# Altium integrated library Capacitor - Aluminium TH.IntLib: 4591 symbols (part 33 of 68)
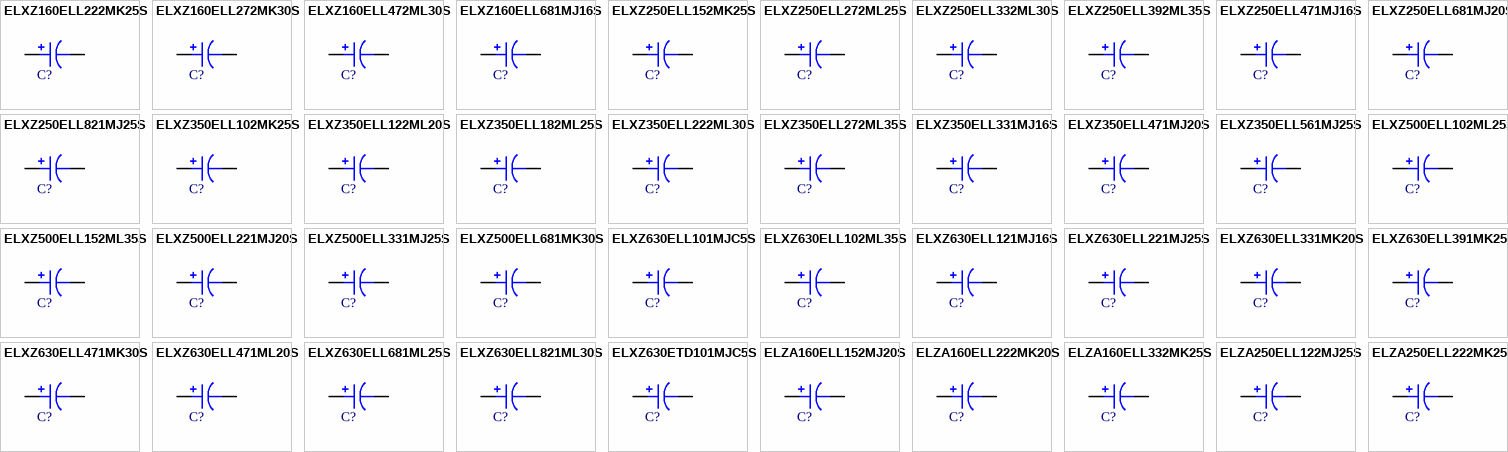
[diagram p146: symbols ELXZ160ELL222MK25S to ELZA250ELL222MK25S]

## ELXZ630ELL102ML35S
designator C?, comment 1000uF  (value not drawn)
CAP ALUM 1000UF 20% 63V RADIAL; Part Number: ELXZ630ELL102ML35S; Manufacturer: United Chemi-Con; TemperatureRange: -55C ~ 105C; Type: Polar; Ripple Current: 1.662A @ 120Hz; Impedance: 36 mOhm; Value: 1000uF; PartId: 27355; Supplier 1: Digi-Key; Supplier Part Number 1: 565-2031-ND; ComponentLink1Description: Datasheet; ComponentLink1URL: http://www.chemi-con.co.jp/cgi-bin/CAT_DB/SEARCH/cat_db_al.cgi?e=e&j=p&pdfname=lxz; ComponentLink2Description: Digi-Key Listing; ComponentLink2URL: https://www.digikey.com/product-detail/en/united-chemi-con/ELXZ630ELL102ML35S/565-2031-ND/756547; Tolerance: 20%; Voltage: 63V; Price: 1.77; Device Package: Radial, Can, 16mm
footprint CAP AL TH D16 L7.5 H37
pins: 1, 2

## ELXZ630ELL121MJ16S
designator C?, comment 120uF  (value not drawn)
CAP ALUM 120UF 20% 63V RADIAL; Part Number: ELXZ630ELL121MJ16S; Manufacturer: United Chemi-Con; TemperatureRange: -55C ~ 105C; Type: Polar; Ripple Current: 240mA @ 120Hz; Impedance: 190 mOhm; Value: 120uF; PartId: 25238; Supplier 1: Digi-Key; Supplier Part Number 1: 565-2032-ND; ComponentLink1Description: Datasheet; ComponentLink1URL: http://www.chemi-con.co.jp/cgi-bin/CAT_DB/SEARCH/cat_db_al.cgi?e=e&j=p&pdfname=lxz; ComponentLink2Description: Digi-Key Listing; ComponentLink2URL: https://www.digikey.com/product-detail/en/united-chemi-con/ELXZ630ELL121MJ16S/565-2032-ND/756548; Tolerance: 20%; Voltage: 63V; Price: 0.56; Device Package: Radial, Can, 10mm
footprint CAP AL TH D10 L5 H17.5
pins: 1, 2

## ELXZ630ELL221MJ25S
designator C?, comment 220uF  (value not drawn)
CAP ALUM 220UF 20% 63V RADIAL; Part Number: ELXZ630ELL221MJ25S; Manufacturer: United Chemi-Con; TemperatureRange: -55C ~ 105C; Type: Polar; Ripple Current: 525mA @ 120Hz; Impedance: 130 mOhm; Value: 220uF; PartId: 26055; Supplier 1: Digi-Key; Supplier Part Number 1: 565-2040-ND; ComponentLink1Description: Datasheet; ComponentLink1URL: http://www.chemi-con.co.jp/cgi-bin/CAT_DB/SEARCH/cat_db_al.cgi?e=e&j=p&pdfname=lxz; ComponentLink2Description: Digi-Key Listing; ComponentLink2URL: https://www.digikey.com/product-detail/en/united-chemi-con/ELXZ630ELL221MJ25S/565-2040-ND/756556; Tolerance: 20%; Voltage: 63V; Price: 0.65; Device Package: Radial, Can, 10mm
footprint CAP AL TH D10 L5 H30
pins: 1, 2

## ELXZ630ELL331MK20S
designator C?, comment 330uF  (value not drawn)
CAP ALUM 330UF 20% 63V RADIAL; Part Number: ELXZ630ELL331MK20S; Manufacturer: United Chemi-Con; TemperatureRange: -55C ~ 105C; Type: Polar; Ripple Current: 645mA @ 120Hz; Impedance: 85 mOhm; Value: 330uF; PartId: 22970; Supplier 1: Digi-Key; Supplier Part Number 1: 565-2043-ND; ComponentLink1Description: Datasheet; ComponentLink1URL: http://www.chemi-con.co.jp/cgi-bin/CAT_DB/SEARCH/cat_db_al.cgi?e=e&j=p&pdfname=lxz; ComponentLink2Description: Digi-Key Listing; ComponentLink2URL: https://www.digikey.com/product-detail/en/united-chemi-con/ELXZ630ELL331MK20S/565-2043-ND/756559; Tolerance: 20%; Voltage: 63V; Price: 0; Device Package: Radial, Can, 12.5mm
footprint CAP AL TH D12.5 L5 H21.5
pins: 1, 2

## ELXZ630ELL391MK25S
designator C?, comment 390uF  (value not drawn)
CAP ALUM 390UF 20% 63V RADIAL; Part Number: ELXZ630ELL391MK25S; Manufacturer: United Chemi-Con; TemperatureRange: -55C ~ 105C; Type: Polar; Ripple Current: 860mA @ 120Hz; Impedance: 70 mOhm; Value: 390uF; PartId: 23665; Supplier 1: Digi-Key; Supplier Part Number 1: 565-2044-ND; ComponentLink1Description: Datasheet; ComponentLink1URL: http://www.chemi-con.co.jp/cgi-bin/CAT_DB/SEARCH/cat_db_al.cgi?e=e&j=p&pdfname=lxz; ComponentLink2Description: Digi-Key Listing; ComponentLink2URL: https://www.digikey.com/product-detail/en/united-chemi-con/ELXZ630ELL391MK25S/565-2044-ND/756560; Tolerance: 20%; Voltage: 63V; Price: 0.95; Device Package: Radial, Can, 12.5mm
footprint CAP AL TH D12.5 L5 H26.5
pins: 1, 2

## ELXZ630ELL471MK30S
designator C?, comment 470uF  (value not drawn)
CAP ALUM 470UF 20% 63V RADIAL; Part Number: ELXZ630ELL471MK30S; Manufacturer: United Chemi-Con; TemperatureRange: -55C ~ 105C; Type: Polar; Ripple Current: 1.045A @ 120Hz; Impedance: 55 mOhm; Value: 470uF; PartId: 24260; Supplier 1: Digi-Key; Supplier Part Number 1: 565-2046-ND; ComponentLink1Description: Datasheet; ComponentLink1URL: http://www.chemi-con.co.jp/cgi-bin/CAT_DB/SEARCH/cat_db_al.cgi?e=e&j=p&pdfname=lxz; ComponentLink2Description: Digi-Key Listing; ComponentLink2URL: https://www.digikey.com/product-detail/en/united-chemi-con/ELXZ630ELL471MK30S/565-2046-ND/756562; Tolerance: 20%; Voltage: 63V; Price: 1.04; Device Package: Radial, Can, 12.5mm
footprint CAP AL TH D12.5 L5 H35.5
pins: 1, 2

## ELXZ630ELL471ML20S
designator C?, comment 470uF  (value not drawn)
CAP ALUM 470UF 20% 63V RADIAL; Part Number: ELXZ630ELL471ML20S; Manufacturer: United Chemi-Con; TemperatureRange: -55C ~ 105C; Type: Polar; Ripple Current: 885mA @ 120Hz; Impedance: 59 mOhm; Value: 470uF; PartId: 26299; Supplier 1: Digi-Key; Supplier Part Number 1: 565-2047-ND; ComponentLink1Description: Datasheet; ComponentLink1URL: http://www.chemi-con.co.jp/cgi-bin/CAT_DB/SEARCH/cat_db_al.cgi?e=e&j=p&pdfname=lxz; ComponentLink2Description: Digi-Key Listing; ComponentLink2URL: https://www.digikey.com/product-detail/en/united-chemi-con/ELXZ630ELL471ML20S/565-2047-ND/756563; Tolerance: 20%; Voltage: 63V; Price: 1.12; Device Package: Radial, Can, 16mm
footprint CAP AL TH D16 L7.5 H20
pins: 1, 2

## ELXZ630ELL681ML25S
designator C?, comment 680uF  (value not drawn)
CAP ALUM 680UF 20% 63V RADIAL; Part Number: ELXZ630ELL681ML25S; Manufacturer: United Chemi-Con; TemperatureRange: -55C ~ 105C; Type: Polar; Ripple Current: 1.296A @ 120Hz; Impedance: 50 mOhm; Value: 680uF; PartId: 26611; Supplier 1: Digi-Key; Supplier Part Number 1: 565-2049-ND; ComponentLink1Description: Datasheet; ComponentLink1URL: http://www.chemi-con.co.jp/cgi-bin/CAT_DB/SEARCH/cat_db_al.cgi?e=e&j=p&pdfname=lxz; ComponentLink2Description: Digi-Key Listing; ComponentLink2URL: https://www.digikey.com/product-detail/en/united-chemi-con/ELXZ630ELL681ML25S/565-2049-ND/756565; Tolerance: 20%; Voltage: 63V; Price: 1.38; Device Package: Radial, Can, 16mm
footprint CAP AL TH D16 L7.5 H26.5
pins: 1, 2

## ELXZ630ELL821ML30S
designator C?, comment 820uF  (value not drawn)
CAP ALUM 820UF 20% 63V RADIAL; Part Number: ELXZ630ELL821ML30S; Manufacturer: United Chemi-Con; TemperatureRange: -55C ~ 105C; Type: Polar; Ripple Current: 1.602A @ 120Hz; Impedance: 43 mOhm; Value: 820uF; PartId: 27010; Supplier 1: Digi-Key; Supplier Part Number 1: 565-2053-ND; ComponentLink1Description: Datasheet; ComponentLink1URL: http://www.chemi-con.co.jp/cgi-bin/CAT_DB/SEARCH/cat_db_al.cgi?e=e&j=p&pdfname=lxz; ComponentLink2Description: Digi-Key Listing; ComponentLink2URL: https://www.digikey.com/product-detail/en/united-chemi-con/ELXZ630ELL821ML30S/565-2053-ND/756569; Tolerance: 20%; Voltage: 63V; Price: 1.4; Device Package: Radial, Can, 16mm
footprint CAP AL TH D16 L7.5 H33.5
pins: 1, 2

## ELXZ630ETD101MJC5S
designator C?, comment 100uF  (value not drawn)
CAP ALUM 100UF 20% 63V RADIAL; Part Number: ELXZ630ETD101MJC5S; Manufacturer: United Chemi-Con; TemperatureRange: -55C ~ 105C; Type: Polar; Ripple Current: 216mA @ 120Hz; Impedance: 255 mOhm; Value: 100uF; PartId: 24576; Supplier 1: Digi-Key; Supplier Part Number 1: 565-3747-2-ND; ComponentLink1Description: Datasheet; ComponentLink1URL: http://www.chemi-con.co.jp/cgi-bin/CAT_DB/SEARCH/cat_db_al.cgi?e=e&j=p&pdfname=lxz; ComponentLink2Description: Digi-Key Listing; ComponentLink2URL: https://www.digikey.com/product-detail/en/united-chemi-con/ELXZ630ETD101MJC5S/565-3747-2-ND/4002192; Tolerance: 20%; Voltage: 63V; Price: 0.1602; Device Package: Radial, Can, 10mm
footprint CAP AL TH D10 L5 H14.5
pins: 1, 2

## ELZA160ELL152MJ20S
designator C?, comment 1500uF  (value not drawn)
CAP ALUM 1500UF 20% 16V RADIAL; Part Number: ELZA160ELL152MJ20S; Manufacturer: United Chemi-Con; TemperatureRange: -55C ~ 105C; Type: Polar; Ripple Current: 930mA @ 120Hz; Impedance: 35 mOhm; Value: 1500uF; PartId: 25707; Supplier 1: Digi-Key; Supplier Part Number 1: 565-3609-ND; ComponentLink1Description: Datasheet; ComponentLink1URL: http://www.chemi-con.co.jp/cgi-bin/CAT_DB/SEARCH/cat_db_al.cgi?e=e&j=p&pdfname=lza; ComponentLink2Description: Digi-Key Listing; ComponentLink2URL: https://www.digikey.com/product-detail/en/united-chemi-con/ELZA160ELL152MJ20S/565-3609-ND/3529409; Tolerance: 20%; Voltage: 16V; Price: 1.01; Device Package: Radial, Can, 10mm
footprint CAP AL TH D10 L5 H22
pins: 1, 2

## ELZA160ELL222MK20S
designator C?, comment 2200uF  (value not drawn)
CAP ALUM 2200UF 20% 16V RADIAL; Part Number: ELZA160ELL222MK20S; Manufacturer: United Chemi-Con; TemperatureRange: -55C ~ 105C; Type: Polar; Ripple Current: 1.418A @ 120Hz; Impedance: 29 mOhm; Value: 2200uF; PartId: 23072; Supplier 1: Digi-Key; Supplier Part Number 1: 565-3368-ND; ComponentLink1Description: Datasheet; ComponentLink1URL: http://www.chemi-con.co.jp/cgi-bin/CAT_DB/SEARCH/cat_db_al.cgi?e=e&j=p&pdfname=lza; ComponentLink2Description: Digi-Key Listing; ComponentLink2URL: https://www.digikey.com/product-detail/en/united-chemi-con/ELZA160ELL222MK20S/565-3368-ND/3529537; Tolerance: 20%; Voltage: 16V; Price: 0; Device Package: Radial, Can, 12.5mm
footprint CAP AL TH D12.5 L5 H21.5
pins: 1, 2

## ELZA160ELL332MK25S
designator C?, comment 3300uF  (value not drawn)
CAP ALUM 3300UF 20% 16V RADIAL; Part Number: ELZA160ELL332MK25S; Manufacturer: United Chemi-Con; TemperatureRange: -55C ~ 105C; Type: Polar; Ripple Current: 1.763A @ 120Hz; Impedance: 22 mOhm; Value: 3300uF; PartId: 23742; Supplier 1: Digi-Key; Supplier Part Number 1: 565-3610-ND; ComponentLink1Description: Datasheet; ComponentLink1URL: http://www.chemi-con.co.jp/cgi-bin/CAT_DB/SEARCH/cat_db_al.cgi?e=e&j=p&pdfname=lza; ComponentLink2Description: Digi-Key Listing; ComponentLink2URL: https://www.digikey.com/product-detail/en/united-chemi-con/ELZA160ELL332MK25S/565-3610-ND/3529411; Tolerance: 20%; Voltage: 16V; Price: 1.6; Device Package: Radial, Can, 12.5mm
footprint CAP AL TH D12.5 L5 H26.5
pins: 1, 2

## ELZA250ELL122MJ25S
designator C?, comment 1200uF  (value not drawn)
CAP ALUM 1200UF 20% 25V RADIAL; Part Number: ELZA250ELL122MJ25S; Manufacturer: United Chemi-Con; TemperatureRange: -55C ~ 105C; Type: Polar; Ripple Current: 1.044A @ 120Hz; Impedance: 33 mOhm; Value: 1200uF; PartId: 26203; Supplier 1: Digi-Key; Supplier Part Number 1: 565-3369-ND; ComponentLink1Description: Datasheet; ComponentLink1URL: http://www.chemi-con.co.jp/cgi-bin/CAT_DB/SEARCH/cat_db_al.cgi?e=e&j=p&pdfname=lza; ComponentLink2Description: Digi-Key Listing; ComponentLink2URL: https://www.digikey.com/product-detail/en/united-chemi-con/ELZA250ELL122MJ25S/565-3369-ND/3529540; Tolerance: 20%; Voltage: 25V; Price: 1.78; Device Package: Radial, Can, 10mm
footprint CAP AL TH D10 L5 H30
pins: 1, 2

## ELZA250ELL222MK25S
designator C?, comment 2200uF  (value not drawn)
CAP ALUM 2200UF 20% 25V RADIAL; Part Number: ELZA250ELL222MK25S; Manufacturer: United Chemi-Con; TemperatureRange: -55C ~ 105C; Type: Polar; Ripple Current: 1.763A @ 120Hz; Impedance: 22 mOhm; Value: 2200uF; PartId: 23744; Supplier 1: Digi-Key; Supplier Part Number 1: 565-3611-ND; ComponentLink1Description: Datasheet; ComponentLink1URL: http://www.chemi-con.co.jp/cgi-bin/CAT_DB/SEARCH/cat_db_al.cgi?e=e&j=p&pdfname=lza; ComponentLink2Description: Digi-Key Listing; ComponentLink2URL: https://www.digikey.com/product-detail/en/united-chemi-con/ELZA250ELL222MK25S/565-3611-ND/3529412; Tolerance: 20%; Voltage: 25V; Price: 1.62; Device Package: Radial, Can, 12.5mm
footprint CAP AL TH D12.5 L5 H26.5
pins: 1, 2

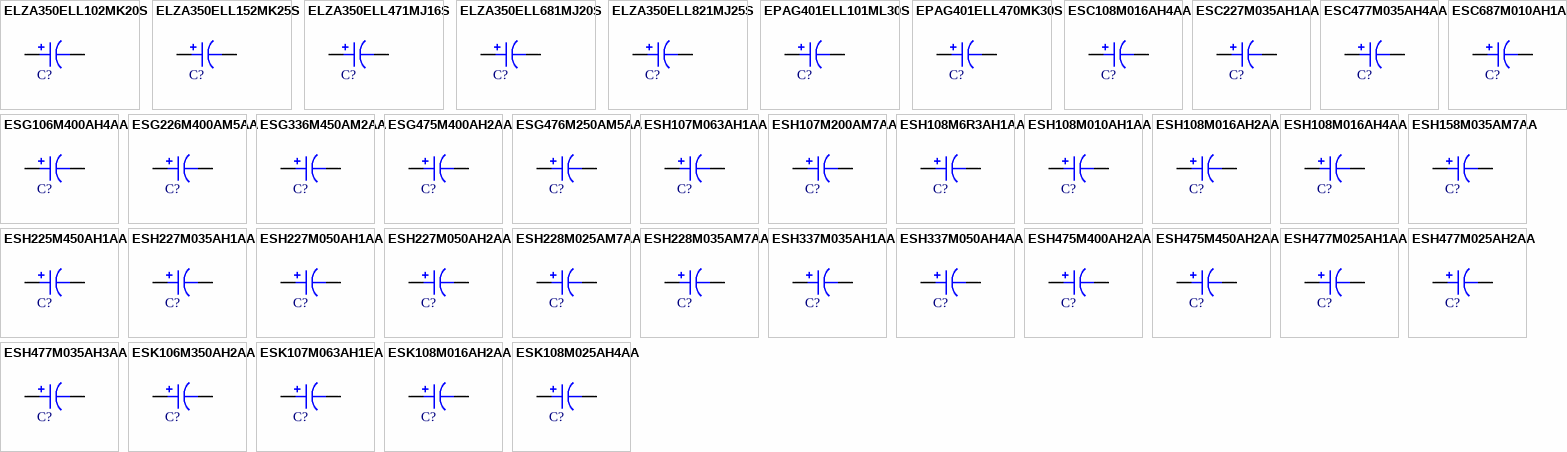
[diagram p53: symbols ELZA350ELL102MK20S to ESK108M025AH4AA]

## ELZA350ELL102MK20S
designator C?, comment 1000uF  (value not drawn)
CAP ALUM 1000UF 20% 35V RADIAL; Part Number: ELZA350ELL102MK20S; Manufacturer: United Chemi-Con; TemperatureRange: -55C ~ 105C; Type: Polar; Ripple Current: 1.134A @ 120Hz; Impedance: 29 mOhm; Value: 1000uF; PartId: 23075; Supplier 1: Digi-Key; Supplier Part Number 1: 565-3373-ND; ComponentLink1Description: Datasheet; ComponentLink1URL: http://www.chemi-con.co.jp/cgi-bin/CAT_DB/SEARCH/cat_db_al.cgi?e=e&j=p&pdfname=lza; ComponentLink2Description: Digi-Key Listing; ComponentLink2URL: https://www.digikey.com/product-detail/en/united-chemi-con/ELZA350ELL102MK20S/565-3373-ND/3529544; Tolerance: 20%; Voltage: 35V; Price: 0; Device Package: Radial, Can, 12.5mm
footprint CAP AL TH D12.5 L5 H21.5
pins: 1, 2

## ELZA350ELL152MK25S
designator C?, comment 1500uF  (value not drawn)
CAP ALUM 1500UF 20% 35V RADIAL; Part Number: ELZA350ELL152MK25S; Manufacturer: United Chemi-Con; TemperatureRange: -55C ~ 105C; Type: Polar; Ripple Current: 1.41A @ 120Hz; Impedance: 22 mOhm; Value: 1500uF; PartId: 23775; Supplier 1: Digi-Key; Supplier Part Number 1: 565-3374-ND; ComponentLink1Description: Datasheet; ComponentLink1URL: http://www.chemi-con.co.jp/cgi-bin/CAT_DB/SEARCH/cat_db_al.cgi?e=e&j=p&pdfname=lza; ComponentLink2Description: Digi-Key Listing; ComponentLink2URL: https://www.digikey.com/product-detail/en/united-chemi-con/ELZA350ELL152MK25S/565-3374-ND/3641511; Tolerance: 20%; Voltage: 35V; Price: 2.25; Device Package: Radial, Can, 12.5mm
footprint CAP AL TH D12.5 L5 H26.5
pins: 1, 2

## ELZA350ELL471MJ16S
designator C?, comment 470uF  (value not drawn)
CAP ALUM 470UF 20% 35V RADIAL; Part Number: ELZA350ELL471MJ16S; Manufacturer: United Chemi-Con; TemperatureRange: -55C ~ 105C; Type: Polar; Ripple Current: 620mA @ 120Hz; Impedance: 49 mOhm; Value: 470uF; PartId: 25438; Supplier 1: Digi-Key; Supplier Part Number 1: 565-3371-ND; ComponentLink1Description: Datasheet; ComponentLink1URL: http://www.chemi-con.co.jp/cgi-bin/CAT_DB/SEARCH/cat_db_al.cgi?e=e&j=p&pdfname=lza; ComponentLink2Description: Digi-Key Listing; ComponentLink2URL: https://www.digikey.com/product-detail/en/united-chemi-con/ELZA350ELL471MJ16S/565-3371-ND/3529547; Tolerance: 20%; Voltage: 35V; Price: 1.36; Device Package: Radial, Can, 10mm
footprint CAP AL TH D10 L5 H17.5
pins: 1, 2

## ELZA350ELL681MJ20S
designator C?, comment 680uF  (value not drawn)
CAP ALUM 680UF 20% 35V RADIAL; Part Number: ELZA350ELL681MJ20S; Manufacturer: United Chemi-Con; TemperatureRange: -55C ~ 105C; Type: Polar; Ripple Current: 930mA @ 120Hz; Impedance: 35 mOhm; Value: 680uF; PartId: 25720; Supplier 1: Digi-Key; Supplier Part Number 1: 565-3372-ND; ComponentLink1Description: Datasheet; ComponentLink1URL: http://www.chemi-con.co.jp/cgi-bin/CAT_DB/SEARCH/cat_db_al.cgi?e=e&j=p&pdfname=lza; ComponentLink2Description: Digi-Key Listing; ComponentLink2URL: https://www.digikey.com/product-detail/en/united-chemi-con/ELZA350ELL681MJ20S/565-3372-ND/3529548; Tolerance: 20%; Voltage: 35V; Price: 1.57; Device Package: Radial, Can, 10mm
footprint CAP AL TH D10 L5 H22
pins: 1, 2

## ELZA350ELL821MJ25S
designator C?, comment 820uF  (value not drawn)
CAP ALUM 820UF 20% 35V RADIAL; Part Number: ELZA350ELL821MJ25S; Manufacturer: United Chemi-Con; TemperatureRange: -55C ~ 105C; Type: Polar; Ripple Current: 1.044A @ 120Hz; Impedance: 33 mOhm; Value: 820uF; PartId: 26190; Supplier 1: Digi-Key; Supplier Part Number 1: 565-3612-ND; ComponentLink1Description: Datasheet; ComponentLink1URL: http://www.chemi-con.co.jp/cgi-bin/CAT_DB/SEARCH/cat_db_al.cgi?e=e&j=p&pdfname=lza; ComponentLink2Description: Digi-Key Listing; ComponentLink2URL: https://www.digikey.com/product-detail/en/united-chemi-con/ELZA350ELL821MJ25S/565-3612-ND/3529413; Tolerance: 20%; Voltage: 35V; Price: 1.17; Device Package: Radial, Can, 10mm
footprint CAP AL TH D10 L5 H30
pins: 1, 2

## EPAG401ELL101ML30S
designator C?, comment 100uF  (value not drawn)
CAP ALUM 100UF 20% 400V RADIAL; Part Number: EPAG401ELL101ML30S; Manufacturer: United Chemi-Con; TemperatureRange: -40C ~ 105C; Type: Polar; Ripple Current: 580mA @ 120Hz; Value: 100uF; PartId: 27277; Supplier 1: Digi-Key; Supplier Part Number 1: 565-4246-ND; ComponentLink1Description: Datasheet; ComponentLink1URL: http://www.chemi-con.co.jp/cgi-bin/CAT_DB/SEARCH/cat_db_al.cgi?e=e&j=p&pdfname=pag; ComponentLink2Description: Digi-Key Listing; ComponentLink2URL: https://www.digikey.com/product-detail/en/united-chemi-con/EPAG401ELL101ML30S/565-4246-ND/3983320; Tolerance: 20%; Voltage: 400V; Price: 3.13; Device Package: Radial, Can, 16mm
footprint CAP AL TH D16 L7.5 H33.5
pins: 1, 2

## EPAG401ELL470MK30S
designator C?, comment 47uF  (value not drawn)
CAP ALUM 47UF 20% 400V RADIAL; Part Number: EPAG401ELL470MK30S; Manufacturer: United Chemi-Con; TemperatureRange: -40C ~ 105C; Type: Polar; Ripple Current: 370mA @ 120Hz; Value: 47uF; PartId: 24408; Supplier 1: Digi-Key; Supplier Part Number 1: 565-4247-ND; ComponentLink1Description: Datasheet; ComponentLink1URL: http://www.chemi-con.co.jp/cgi-bin/CAT_DB/SEARCH/cat_db_al.cgi?e=e&j=p&pdfname=pag; ComponentLink2Description: Digi-Key Listing; ComponentLink2URL: https://www.digikey.com/product-detail/en/united-chemi-con/EPAG401ELL470MK30S/565-4247-ND/3983314; Tolerance: 20%; Voltage: 400V; Price: 1.99; Device Package: Radial, Can, 12.5mm
footprint CAP AL TH D12.5 L5 H35.5
pins: 1, 2

## ESC108M016AH4AA
designator C?, comment 1000uF  (value not drawn)
CAP ALUM 1000UF 20% 16V RADIAL; Part Number: ESC108M016AH4AA; Manufacturer: KEMET; TemperatureRange: -40C ~ 105C; Type: Polar; Ripple Current: 1A @ 120Hz; Impedance: 39 mOhm; Value: 1000uF; PartId: 25500; Supplier 1: Digi-Key; Supplier Part Number 1: 399-6082-ND; ComponentLink1Description: Datasheet; ComponentLink1URL: http://capacitoredge.kemet.com/capedge2/DataSheet?pn=ESC108M016AH4AA; ComponentLink2Description: Digi-Key Listing; ComponentLink2URL: https://www.digikey.com/product-detail/en/kemet/ESC108M016AH4AA/399-6082-ND/2712502; Tolerance: 20%; Voltage: 16V; Price: 0.47; Device Package: Radial, Can, 10mm
footprint CAP AL TH D10 L5 H22
pins: 1, 2

## ESC227M035AH1AA
designator C?, comment 220uF  (value not drawn)
CAP ALUM 220UF 20% 35V RADIAL; Part Number: ESC227M035AH1AA; Manufacturer: KEMET; TemperatureRange: -40C ~ 105C; Type: Polar; Ripple Current: 560mA @ 120Hz; Impedance: 69 mOhm; Value: 220uF; PartId: 24683; Supplier 1: Digi-Key; Supplier Part Number 1: 399-6083-ND; ComponentLink1Description: Datasheet; ComponentLink1URL: http://capacitoredge.kemet.com/capedge2/DataSheet?pn=ESC227M035AH1AA; ComponentLink2Description: Digi-Key Listing; ComponentLink2URL: https://www.digikey.com/product-detail/en/kemet/ESC227M035AH1AA/399-6083-ND/2712550; Tolerance: 20%; Voltage: 35V; Price: 0.34; Device Package: Radial, Can, 10mm
footprint CAP AL TH D10 L5 H14.5
pins: 1, 2

## ESC477M035AH4AA
designator C?, comment 470uF  (value not drawn)
CAP ALUM 470UF 20% 35V RADIAL; Part Number: ESC477M035AH4AA; Manufacturer: KEMET; TemperatureRange: -40C ~ 105C; Type: Polar; Ripple Current: 1.04A @ 120Hz; Impedance: 39 mOhm; Value: 470uF; PartId: 25497; Supplier 1: Digi-Key; Supplier Part Number 1: 399-6086-ND; ComponentLink1Description: Datasheet; ComponentLink1URL: http://capacitoredge.kemet.com/capedge2/DataSheet?pn=ESC477M035AH4AA; ComponentLink2Description: Digi-Key Listing; ComponentLink2URL: https://www.digikey.com/product-detail/en/kemet/ESC477M035AH4AA/399-6086-ND/2712516; Tolerance: 20%; Voltage: 35V; Price: 0.44; Device Package: Radial, Can, 10mm
footprint CAP AL TH D10 L5 H22
pins: 1, 2

## ESC687M010AH1AA
designator C?, comment 680uF  (value not drawn)
CAP ALUM 680UF 20% 10V RADIAL; Part Number: ESC687M010AH1AA; Manufacturer: KEMET; TemperatureRange: -40C ~ 105C; Type: Polar; Ripple Current: 640mA @ 120Hz; Impedance: 85 mOhm; Value: 680uF; PartId: 24704; Supplier 1: Digi-Key; Supplier Part Number 1: 399-6088-ND; ComponentLink1Description: Datasheet; ComponentLink1URL: http://capacitoredge.kemet.com/capedge2/DataSheet?pn=ESC687M010AH1AA; ComponentLink2Description: Digi-Key Listing; ComponentLink2URL: https://www.digikey.com/product-detail/en/kemet/ESC687M010AH1AA/399-6088-ND/2712518; Tolerance: 20%; Voltage: 10V; Price: 0.38; Device Package: Radial, Can, 10mm
footprint CAP AL TH D10 L5 H14.5
pins: 1, 2

## ESG106M400AH4AA
designator C?, comment 10uF  (value not drawn)
CAP ALUM 10UF 20% 400V RADIAL; Part Number: ESG106M400AH4AA; Manufacturer: KEMET; TemperatureRange: -40C ~ 105C; Type: Polar; Ripple Current: 100mA @ 120Hz; Impedance: 2.9 Ohm; Value: 10uF; PartId: 25554; Supplier 1: Digi-Key; Supplier Part Number 1: 399-6538-ND; ComponentLink1Description: Datasheet; ComponentLink1URL: http://www.kemet.com/docfinder?Partnumber=ESG106M400AH4AA; ComponentLink2Description: Digi-Key Listing; ComponentLink2URL: https://www.digikey.com/product-detail/en/kemet/ESG106M400AH4AA/399-6538-ND/3082953; Tolerance: 20%; Voltage: 400V; Price: 0.64; Device Package: Radial, Can, 10mm
footprint CAP AL TH D10 L5 H22
pins: 1, 2

## ESG226M400AM5AA
designator C?, comment 22uF  (value not drawn)
CAP ALUM 22UF 20% 400V RADIAL; Part Number: ESG226M400AM5AA; Manufacturer: KEMET; TemperatureRange: -40C ~ 105C; Type: Polar; Ripple Current: 200mA @ 120Hz; Impedance: 1 Ohm; Value: 22uF; PartId: 26406; Supplier 1: Digi-Key; Supplier Part Number 1: 399-6539-ND; ComponentLink1Description: Datasheet; ComponentLink1URL: http://www.kemet.com/docfinder?Partnumber=ESG226M400AM5AA; ComponentLink2Description: Digi-Key Listing; ComponentLink2URL: https://www.digikey.com/product-detail/en/kemet/ESG226M400AM5AA/399-6539-ND/3082954; Tolerance: 20%; Voltage: 400V; Price: 1; Device Package: Radial, Can, 16mm
footprint CAP AL TH D16 L7.5 H22
pins: 1, 2

## ESG336M450AM2AA
designator C?, comment 33uF  (value not drawn)
CAP ALUM 33UF 20% 450V RADIAL; Part Number: ESG336M450AM2AA; Manufacturer: KEMET; TemperatureRange: -25C ~ 105C; Type: Polar; Ripple Current: 275mA @ 120Hz; Impedance: 1.3 Ohm; Value: 33uF; PartId: 27335; Supplier 1: Digi-Key; Supplier Part Number 1: 399-6540-ND; ComponentLink1Description: Datasheet; ComponentLink1URL: http://www.kemet.com/docfinder?Partnumber=ESG336M450AM2AA; ComponentLink2Description: Digi-Key Listing; ComponentLink2URL: https://www.digikey.com/product-detail/en/kemet/ESG336M450AM2AA/399-6540-ND/3082955; Tolerance: 20%; Voltage: 450V; Price: 1.64; Device Package: Radial, Can, 16mm
footprint CAP AL TH D16 L7.5 H37
pins: 1, 2

## ESG475M400AH2AA
designator C?, comment 4.7uF  (value not drawn)
CAP ALUM 4.7UF 20% 400V RADIAL; Part Number: ESG475M400AH2AA; Manufacturer: KEMET; TemperatureRange: -40C ~ 105C; Type: Polar; Ripple Current: 50mA @ 120Hz; Impedance: 3.5 Ohm; Value: 4.7uF; PartId: 25255; Supplier 1: Digi-Key; Supplier Part Number 1: 399-6091-ND; ComponentLink1Description: Datasheet; ComponentLink1URL: http://capacitoredge.kemet.com/capedge2/DataSheet?pn=ESG475M400AH2AA; ComponentLink2Description: Digi-Key Listing; ComponentLink2URL: https://www.digikey.com/product-detail/en/kemet/ESG475M400AH2AA/399-6091-ND/2712521; Tolerance: 20%; Voltage: 400V; Price: 0.59; Device Package: Radial, Can, 10mm
footprint CAP AL TH D10 L5 H17.5
pins: 1, 2

## ESG476M250AM5AA
designator C?, comment 47uF  (value not drawn)
CAP ALUM 47UF 20% 250V RADIAL; Part Number: ESG476M250AM5AA; Manufacturer: KEMET; TemperatureRange: -40C ~ 105C; Type: Polar; Ripple Current: 275mA @ 120Hz; Impedance: 1.5 Ohm; Value: 47uF; PartId: 26408; Supplier 1: Digi-Key; Supplier Part Number 1: 399-6092-ND; ComponentLink1Description: Datasheet; ComponentLink1URL: http://capacitoredge.kemet.com/capedge2/DataSheet?pn=ESG476M250AM5AA; ComponentLink2Description: Digi-Key Listing; ComponentLink2URL: https://www.digikey.com/product-detail/en/kemet/ESG476M250AM5AA/399-6092-ND/2712522; Tolerance: 20%; Voltage: 250V; Price: 1.02; Device Package: Radial, Can, 16mm
footprint CAP AL TH D16 L7.5 H22
pins: 1, 2

## ESH107M063AH1AA
designator C?, comment 100uF  (value not drawn)
CAP ALUM 100UF 20% 63V RADIAL; Part Number: ESH107M063AH1AA; Manufacturer: KEMET; TemperatureRange: -40C ~ 105C; Type: Polar; Ripple Current: 260mA @ 120Hz; Value: 100uF; PartId: 24745; Supplier 1: Digi-Key; Supplier Part Number 1: 399-6550-ND; ComponentLink1Description: Datasheet; ComponentLink1URL: http://www.kemet.com/docfinder?Partnumber=ESH107M063AH1AA; ComponentLink2Description: Digi-Key Listing; ComponentLink2URL: https://www.digikey.com/product-detail/en/kemet/ESH107M063AH1AA/399-6550-ND/3082965; Tolerance: 20%; Voltage: 63V; Price: 0.42; Device Package: Radial, Can, 10mm
footprint CAP AL TH D10 L5 H14.5
pins: 1, 2

## ESH107M200AM7AA
designator C?, comment 100uF  (value not drawn)
CAP ALUM 100UF 20% 200V RADIAL; Part Number: ESH107M200AM7AA; Manufacturer: KEMET; TemperatureRange: -25C ~ 105C; Type: Polar; Value: 100uF; PartId: 26841; Supplier 1: Digi-Key; Supplier Part Number 1: 399-6551-ND; ComponentLink1Description: Datasheet; ComponentLink1URL: http://www.kemet.com/docfinder?Partnumber=ESH107M200AM7AA; ComponentLink2Description: Digi-Key Listing; ComponentLink2URL: https://www.digikey.com/product-detail/en/kemet/ESH107M200AM7AA/399-6551-ND/3082966; Tolerance: 20%; Voltage: 200V; Price: 1.02; Device Package: Radial, Can, 16mm
footprint CAP AL TH D16 L7.5 H27
pins: 1, 2

## ESH108M6R3AH1AA
designator C?, comment 1000uF  (value not drawn)
CAP ALUM 1000UF 20% 6.3V RADIAL; Part Number: ESH108M6R3AH1AA; Manufacturer: KEMET; TemperatureRange: -40C ~ 105C; Type: Polar; Ripple Current: 470mA @ 120Hz; Value: 1000uF; PartId: 24676; Supplier 1: Digi-Key; Supplier Part Number 1: 399-6558-ND; ComponentLink1Description: Datasheet; ComponentLink1URL: http://www.kemet.com/docfinder?Partnumber=ESH108M6R3AH1AA; ComponentLink2Description: Digi-Key Listing; ComponentLink2URL: https://www.digikey.com/product-detail/en/kemet/ESH108M6R3AH1AA/399-6558-ND/3082973; Tolerance: 20%; Voltage: 6.3V; Price: 0.32; Device Package: Radial, Can, 10mm
footprint CAP AL TH D10 L5 H14.5
pins: 1, 2

## ESH108M010AH1AA
designator C?, comment 1000uF  (value not drawn)
CAP ALUM 1000UF 20% 10V RADIAL; Part Number: ESH108M010AH1AA; Manufacturer: KEMET; TemperatureRange: -40C ~ 105C; Type: Polar; Value: 1000uF; PartId: 24751; Supplier 1: Digi-Key; Supplier Part Number 1: 399-6552-ND; ComponentLink1Description: Datasheet; ComponentLink1URL: http://www.kemet.com/docfinder?Partnumber=ESH108M010AH1AA; ComponentLink2Description: Digi-Key Listing; ComponentLink2URL: https://www.digikey.com/product-detail/en/kemet/ESH108M010AH1AA/399-6552-ND/3082967; Tolerance: 20%; Voltage: 10V; Price: 0.42; Device Package: Radial, Can, 10mm
footprint CAP AL TH D10 L5 H14.5
pins: 1, 2

## ESH108M016AH2AA
designator C?, comment 1000uF  (value not drawn)
CAP ALUM 1000UF 20% 16V RADIAL; Part Number: ESH108M016AH2AA; Manufacturer: KEMET; TemperatureRange: -40C ~ 105C; Type: Polar; Value: 1000uF; PartId: 25173; Supplier 1: Digi-Key; Supplier Part Number 1: 399-6553-ND; ComponentLink1Description: Datasheet; ComponentLink1URL: http://www.kemet.com/docfinder?Partnumber=ESH108M016AH2AA; ComponentLink2Description: Digi-Key Listing; ComponentLink2URL: https://www.digikey.com/product-detail/en/kemet/ESH108M016AH2AA/399-6553-ND/3082968; Tolerance: 20%; Voltage: 16V; Price: 0.45; Device Package: Radial, Can, 10mm
footprint CAP AL TH D10 L5 H17.5
pins: 1, 2

## ESH108M016AH4AA
designator C?, comment 1000uF  (value not drawn)
CAP ALUM 1000UF 20% 16V RADIAL; Part Number: ESH108M016AH4AA; Manufacturer: KEMET; TemperatureRange: -40C ~ 105C; Type: Polar; Ripple Current: 700mA @ 120Hz; Value: 1000uF; PartId: 25501; Supplier 1: Digi-Key; Supplier Part Number 1: 399-6554-ND; ComponentLink1Description: Datasheet; ComponentLink1URL: http://www.kemet.com/docfinder?Partnumber=ESH108M016AH4AA; ComponentLink2Description: Digi-Key Listing; ComponentLink2URL: https://www.digikey.com/product-detail/en/kemet/ESH108M016AH4AA/399-6554-ND/3082969; Tolerance: 20%; Voltage: 16V; Price: 0.47; Device Package: Radial, Can, 10mm
footprint CAP AL TH D10 L5 H22
pins: 1, 2

## ESH158M035AM7AA
designator C?, comment 1500uF  (value not drawn)
CAP ALUM 1500UF 20% 35V RADIAL; Part Number: ESH158M035AM7AA; Manufacturer: KEMET; TemperatureRange: -40C ~ 105C; Type: Polar; Ripple Current: 1.11A @ 120Hz; Value: 1500uF; PartId: 26805; Supplier 1: Digi-Key; Supplier Part Number 1: 399-6559-ND; ComponentLink1Description: Datasheet; ComponentLink1URL: http://www.kemet.com/docfinder?Partnumber=ESH158M035AM7AA; ComponentLink2Description: Digi-Key Listing; ComponentLink2URL: https://www.digikey.com/product-detail/en/kemet/ESH158M035AM7AA/399-6559-ND/3082974; Tolerance: 20%; Voltage: 35V; Price: 0.83; Device Package: Radial, Can, 16mm
footprint CAP AL TH D16 L7.5 H27
pins: 1, 2

## ESH225M450AH1AA
designator C?, comment 2.2uF  (value not drawn)
CAP ALUM 2.2UF 20% 450V RADIAL; Part Number: ESH225M450AH1AA; Manufacturer: KEMET; TemperatureRange: -25C ~ 105C; Type: Polar; Ripple Current: 37mA @ 120Hz; Value: 2.2uF; PartId: 24710; Supplier 1: Digi-Key; Supplier Part Number 1: 399-6561-ND; ComponentLink1Description: Datasheet; ComponentLink1URL: http://www.kemet.com/docfinder?Partnumber=ESH225M450AH1AA; ComponentLink2Description: Digi-Key Listing; ComponentLink2URL: https://www.digikey.com/product-detail/en/kemet/ESH225M450AH1AA/399-6561-ND/3082976; Tolerance: 20%; Voltage: 450V; Price: 0.39; Device Package: Radial, Can, 10mm
footprint CAP AL TH D10 L5 H14.5
pins: 1, 2

## ESH227M035AH1AA
designator C?, comment 220uF  (value not drawn)
CAP ALUM 220UF 20% 35V RADIAL; Part Number: ESH227M035AH1AA; Manufacturer: KEMET; TemperatureRange: -40C ~ 105C; Type: Polar; Ripple Current: 315mA @ 120Hz; Value: 220uF; PartId: 24690; Supplier 1: Digi-Key; Supplier Part Number 1: 399-6568-ND; ComponentLink1Description: Datasheet; ComponentLink1URL: http://www.kemet.com/docfinder?Partnumber=ESH227M035AH1AA; ComponentLink2Description: Digi-Key Listing; ComponentLink2URL: https://www.digikey.com/product-detail/en/kemet/ESH227M035AH1AA/399-6568-ND/3082983; Tolerance: 20%; Voltage: 35V; Price: 0.35; Device Package: Radial, Can, 10mm
footprint CAP AL TH D10 L5 H14.5
pins: 1, 2

## ESH227M050AH1AA
designator C?, comment 220uF  (value not drawn)
CAP ALUM 220UF 20% 50V RADIAL; Part Number: ESH227M050AH1AA; Manufacturer: KEMET; TemperatureRange: -40C ~ 105C; Type: Polar; Value: 220uF; PartId: 24847; Supplier 1: Digi-Key; Supplier Part Number 1: 399-6569-ND; ComponentLink1Description: Datasheet; ComponentLink1URL: http://www.kemet.com/docfinder?Partnumber=ESH227M050AH1AA; ComponentLink2Description: Digi-Key Listing; ComponentLink2URL: https://www.digikey.com/product-detail/en/kemet/ESH227M050AH1AA/399-6569-ND/3082984; Tolerance: 20%; Voltage: 50V; Price: 0.47; Device Package: Radial, Can, 10mm
footprint CAP AL TH D10 L5 H14.5
pins: 1, 2

## ESH227M050AH2AA
designator C?, comment 220uF  (value not drawn)
CAP ALUM 220UF 20% 50V RADIAL; Part Number: ESH227M050AH2AA; Manufacturer: KEMET; TemperatureRange: -40C ~ 105C; Type: Polar; Ripple Current: 400mA @ 120Hz; Value: 220uF; PartId: 25155; Supplier 1: Digi-Key; Supplier Part Number 1: 399-6570-ND; ComponentLink1Description: Datasheet; ComponentLink1URL: http://www.kemet.com/docfinder?Partnumber=ESH227M050AH2AA; ComponentLink2Description: Digi-Key Listing; ComponentLink2URL: https://www.digikey.com/product-detail/en/kemet/ESH227M050AH2AA/399-6570-ND/3082985; Tolerance: 20%; Voltage: 50V; Price: 0.43; Device Package: Radial, Can, 10mm
footprint CAP AL TH D10 L5 H17.5
pins: 1, 2

## ESH228M025AM7AA
designator C?, comment 2200uF  (value not drawn)
CAP ALUM 2200UF 20% 25V RADIAL; Part Number: ESH228M025AM7AA; Manufacturer: KEMET; TemperatureRange: -40C ~ 105C; Type: Polar; Ripple Current: 1.23A @ 120Hz; Value: 2200uF; PartId: 26807; Supplier 1: Digi-Key; Supplier Part Number 1: 399-6571-ND; ComponentLink1Description: Datasheet; ComponentLink1URL: http://www.kemet.com/docfinder?Partnumber=ESH228M025AM7AA; ComponentLink2Description: Digi-Key Listing; ComponentLink2URL: https://www.digikey.com/product-detail/en/kemet/ESH228M025AM7AA/399-6571-ND/3082986; Tolerance: 20%; Voltage: 25V; Price: 0.84; Device Package: Radial, Can, 16mm
footprint CAP AL TH D16 L7.5 H27
pins: 1, 2

## ESH228M035AM7AA
designator C?, comment 2200uF  (value not drawn)
CAP ALUM 2200UF 20% 35V RADIAL; Part Number: ESH228M035AM7AA; Manufacturer: KEMET; TemperatureRange: -40C ~ 105C; Type: Polar; Value: 2200uF; PartId: 26829; Supplier 1: Digi-Key; Supplier Part Number 1: 399-6572-ND; ComponentLink1Description: Datasheet; ComponentLink1URL: http://www.kemet.com/docfinder?Partnumber=ESH228M035AM7AA; ComponentLink2Description: Digi-Key Listing; ComponentLink2URL: https://www.digikey.com/product-detail/en/kemet/ESH228M035AM7AA/399-6572-ND/3082987; Tolerance: 20%; Voltage: 35V; Price: 0.98; Device Package: Radial, Can, 16mm
footprint CAP AL TH D16 L7.5 H27
pins: 1, 2

## ESH337M035AH1AA
designator C?, comment 330uF  (value not drawn)
CAP ALUM 330UF 20% 35V RADIAL; Part Number: ESH337M035AH1AA; Manufacturer: KEMET; TemperatureRange: -40C ~ 105C; Type: Polar; Value: 330uF; PartId: 24682; Supplier 1: Digi-Key; Supplier Part Number 1: 399-6581-ND; ComponentLink1Description: Datasheet; ComponentLink1URL: http://www.kemet.com/docfinder?Partnumber=ESH337M035AH1AA; ComponentLink2Description: Digi-Key Listing; ComponentLink2URL: https://www.digikey.com/product-detail/en/kemet/ESH337M035AH1AA/399-6581-ND/3082996; Tolerance: 20%; Voltage: 35V; Price: 0.33; Device Package: Radial, Can, 10mm
footprint CAP AL TH D10 L5 H14.5
pins: 1, 2

## ESH337M050AH4AA
designator C?, comment 330uF  (value not drawn)
CAP ALUM 330UF 20% 50V RADIAL; Part Number: ESH337M050AH4AA; Manufacturer: KEMET; TemperatureRange: -40C ~ 105C; Type: Polar; Ripple Current: 535mA @ 120Hz; Value: 330uF; PartId: 25506; Supplier 1: Digi-Key; Supplier Part Number 1: 399-6582-ND; ComponentLink1Description: Datasheet; ComponentLink1URL: http://www.kemet.com/docfinder?Partnumber=ESH337M050AH4AA; ComponentLink2Description: Digi-Key Listing; ComponentLink2URL: https://www.digikey.com/product-detail/en/kemet/ESH337M050AH4AA/399-6582-ND/3082997; Tolerance: 20%; Voltage: 50V; Price: 0.49; Device Package: Radial, Can, 10mm
footprint CAP AL TH D10 L5 H22
pins: 1, 2

## ESH475M400AH2AA
designator C?, comment 4.7uF  (value not drawn)
CAP ALUM 4.7UF 20% 400V RADIAL; Part Number: ESH475M400AH2AA; Manufacturer: KEMET; TemperatureRange: -25C ~ 105C; Type: Polar; Ripple Current: 57mA @ 120Hz; Value: 4.7uF; PartId: 25160; Supplier 1: Digi-Key; Supplier Part Number 1: 399-6097-ND; ComponentLink1Description: Datasheet; ComponentLink1URL: http://capacitoredge.kemet.com/capedge2/DataSheet?pn=ESH475M400AH2AA; ComponentLink2Description: Digi-Key Listing; ComponentLink2URL: https://www.digikey.com/product-detail/en/kemet/ESH475M400AH2AA/399-6097-ND/2712512; Tolerance: 20%; Voltage: 400V; Price: 0.44; Device Package: Radial, Can, 10mm
footprint CAP AL TH D10 L5 H17.5
pins: 1, 2

## ESH475M450AH2AA
designator C?, comment 4.7uF  (value not drawn)
CAP ALUM 4.7UF 20% 450V RADIAL; Part Number: ESH475M450AH2AA; Manufacturer: KEMET; TemperatureRange: -25C ~ 105C; Type: Polar; Ripple Current: 59mA @ 120Hz; Value: 4.7uF; PartId: 25186; Supplier 1: Digi-Key; Supplier Part Number 1: 399-6585-ND; ComponentLink1Description: Datasheet; ComponentLink1URL: http://www.kemet.com/docfinder?Partnumber=ESH475M450AH2AA; ComponentLink2Description: Digi-Key Listing; ComponentLink2URL: https://www.digikey.com/product-detail/en/kemet/ESH475M450AH2AA/399-6585-ND/3083000; Tolerance: 20%; Voltage: 450V; Price: 0.48; Device Package: Radial, Can, 10mm
footprint CAP AL TH D10 L5 H17.5
pins: 1, 2

## ESH477M025AH1AA
designator C?, comment 470uF  (value not drawn)
CAP ALUM 470UF 20% 25V RADIAL; Part Number: ESH477M025AH1AA; Manufacturer: KEMET; TemperatureRange: -40C ~ 105C; Type: Polar; Ripple Current: 405mA @ 120Hz; Value: 470uF; PartId: 24747; Supplier 1: Digi-Key; Supplier Part Number 1: 399-6590-ND; ComponentLink1Description: Datasheet; ComponentLink1URL: http://www.kemet.com/docfinder?Partnumber=ESH477M025AH1AA; ComponentLink2Description: Digi-Key Listing; ComponentLink2URL: https://www.digikey.com/product-detail/en/kemet/ESH477M025AH1AA/399-6590-ND/3083005; Tolerance: 20%; Voltage: 25V; Price: 0.42; Device Package: Radial, Can, 10mm
footprint CAP AL TH D10 L5 H14.5
pins: 1, 2

## ESH477M025AH2AA
designator C?, comment 470uF  (value not drawn)
CAP ALUM 470UF 20% 25V RADIAL; Part Number: ESH477M025AH2AA; Manufacturer: KEMET; TemperatureRange: -40C ~ 105C; Type: Polar; Ripple Current: 470mA @ 120Hz; Value: 470uF; PartId: 25181; Supplier 1: Digi-Key; Supplier Part Number 1: 399-6591-ND; ComponentLink1Description: Datasheet; ComponentLink1URL: http://www.kemet.com/docfinder?Partnumber=ESH477M025AH2AA; ComponentLink2Description: Digi-Key Listing; ComponentLink2URL: https://www.digikey.com/product-detail/en/kemet/ESH477M025AH2AA/399-6591-ND/3083006; Tolerance: 20%; Voltage: 25V; Price: 0.47; Device Package: Radial, Can, 10mm
footprint CAP AL TH D10 L5 H17.5
pins: 1, 2

## ESH477M035AH3AA
designator C?, comment 470uF  (value not drawn)
CAP ALUM 470UF 20% 35V RADIAL; Part Number: ESH477M035AH3AA; Manufacturer: KEMET; TemperatureRange: -40C ~ 105C; Type: Polar; Value: 470uF; PartId: 25490; Supplier 1: Digi-Key; Supplier Part Number 1: 399-6592-ND; ComponentLink1Description: Datasheet; ComponentLink1URL: http://www.kemet.com/docfinder?Partnumber=ESH477M035AH3AA; ComponentLink2Description: Digi-Key Listing; ComponentLink2URL: https://www.digikey.com/product-detail/en/kemet/ESH477M035AH3AA/399-6592-ND/3083007; Tolerance: 20%; Voltage: 35V; Price: 0.42; Device Package: Radial, Can, 10mm
footprint CAP AL TH D10 L5 H22
pins: 1, 2

## ESK106M350AH2AA
designator C?, comment 10uF  (value not drawn)
CAP ALUM 10UF 20% 350V RADIAL; Part Number: ESK106M350AH2AA; Manufacturer: KEMET; TemperatureRange: -25C ~ 85C; Type: Polar; Ripple Current: 70mA @ 120Hz; Value: 10uF; PartId: 25148; Supplier 1: Digi-Key; Supplier Part Number 1: 399-6101-ND; ComponentLink1Description: Datasheet; ComponentLink1URL: http://capacitoredge.kemet.com/capedge2/DataSheet?pn=ESK106M350AH2AA; ComponentLink2Description: Digi-Key Listing; ComponentLink2URL: https://www.digikey.com/product-detail/en/kemet/ESK106M350AH2AA/399-6101-ND/2712503; Tolerance: 20%; Voltage: 350V; Price: 0.42; Device Package: Radial, Can, 10mm
footprint CAP AL TH D10 L5 H17.5
pins: 1, 2

## ESK107M063AH1EA
designator C?, comment 100uF  (value not drawn)
CAP ALUM 100UF 20% 63V RADIAL; Part Number: ESK107M063AH1EA; Manufacturer: KEMET; TemperatureRange: -40C ~ 85C; Type: Polar; Ripple Current: 300mA @ 120Hz; Value: 100uF; PartId: 24493; Supplier 1: Digi-Key; Supplier Part Number 1: 399-6651-3-ND; ComponentLink1Description: Datasheet; ComponentLink1URL: http://www.kemet.com/docfinder?Partnumber=ESK107M063AH1EA; ComponentLink2Description: Digi-Key Listing; ComponentLink2URL: https://www.digikey.com/product-detail/en/kemet/ESK107M063AH1EA/399-6651-3-ND/3083066; Tolerance: 20%; Voltage: 63V; Price: 0.1055; Device Package: Radial, Can, 10mm
footprint CAP AL TH D10 L5 H14.5
pins: 1, 2

## ESK108M016AH2AA
designator C?, comment 1000uF  (value not drawn)
CAP ALUM 1000UF 20% 16V RADIAL; Part Number: ESK108M016AH2AA; Manufacturer: KEMET; TemperatureRange: -40C ~ 85C; Type: Polar; Ripple Current: 630mA @ 120Hz; Value: 1000uF; PartId: 25154; Supplier 1: Digi-Key; Supplier Part Number 1: 399-6106-ND; ComponentLink1Description: Datasheet; ComponentLink1URL: http://capacitoredge.kemet.com/capedge2/DataSheet?pn=ESK108M016AH2AA; ComponentLink2Description: Digi-Key Listing; ComponentLink2URL: https://www.digikey.com/product-detail/en/kemet/ESK108M016AH2AA/399-6106-ND/2712524; Tolerance: 20%; Voltage: 16V; Price: 0.43; Device Package: Radial, Can, 10mm
footprint CAP AL TH D10 L5 H17.5
pins: 1, 2

## ESK108M025AH4AA
designator C?, comment 1000uF  (value not drawn)
CAP ALUM 1000UF 20% 25V RADIAL; Part Number: ESK108M025AH4AA; Manufacturer: KEMET; TemperatureRange: -40C ~ 85C; Type: Polar; Ripple Current: 760mA @ 120Hz; Value: 1000uF; PartId: 25495; Supplier 1: Digi-Key; Supplier Part Number 1: 399-6603-ND; ComponentLink1Description: Datasheet; ComponentLink1URL: http://www.kemet.com/docfinder?Partnumber=ESK108M025AH4AA; ComponentLink2Description: Digi-Key Listing; ComponentLink2URL: https://www.digikey.com/product-detail/en/kemet/ESK108M025AH4AA/399-6603-ND/3083018; Tolerance: 20%; Voltage: 25V; Price: 0.43; Device Package: Radial, Can, 10mm
footprint CAP AL TH D10 L5 H22
pins: 1, 2

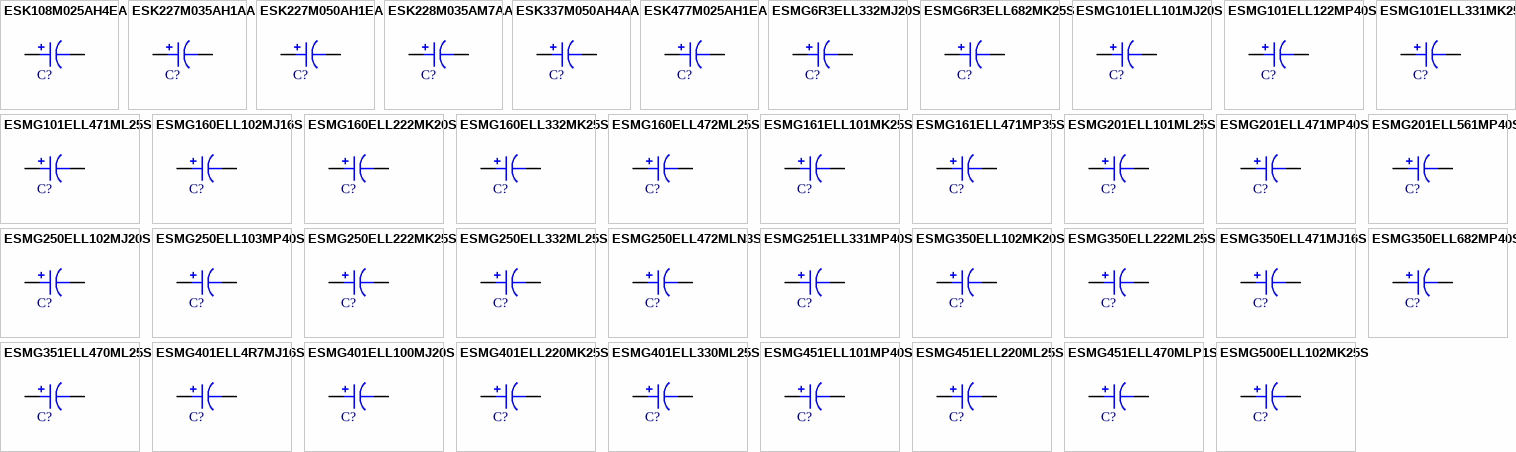
[diagram p54: symbols ESK108M025AH4EA to ESMG500ELL102MK25S]

## ESK108M025AH4EA
designator C?, comment 1000uF  (value not drawn)
CAP ALUM 1000UF 20% 25V RADIAL; Part Number: ESK108M025AH4EA; Manufacturer: KEMET; TemperatureRange: -40C ~ 85C; Type: Polar; Ripple Current: 760mA @ 120Hz; Value: 1000uF; PartId: 25450; Supplier 1: Digi-Key; Supplier Part Number 1: 399-6652-3-ND; ComponentLink1Description: Datasheet; ComponentLink1URL: http://www.kemet.com/docfinder?Partnumber=ESK108M025AH4EA; ComponentLink2Description: Digi-Key Listing; ComponentLink2URL: https://www.digikey.com/product-detail/en/kemet/ESK108M025AH4EA/399-6652-3-ND/3083067; Tolerance: 20%; Voltage: 25V; Price: 0.1466; Device Package: Radial, Can, 10mm
footprint CAP AL TH D10 L5 H22
pins: 1, 2

## ESK227M035AH1AA
designator C?, comment 220uF  (value not drawn)
CAP ALUM 220UF 20% 35V RADIAL; Part Number: ESK227M035AH1AA; Manufacturer: KEMET; TemperatureRange: -40C ~ 85C; Type: Polar; Ripple Current: 370mA @ 120Hz; Value: 220uF; PartId: 24678; Supplier 1: Digi-Key; Supplier Part Number 1: 399-6109-ND; ComponentLink1Description: Datasheet; ComponentLink1URL: http://capacitoredge.kemet.com/capedge2/DataSheet?pn=ESK227M035AH1AA; ComponentLink2Description: Digi-Key Listing; ComponentLink2URL: https://www.digikey.com/product-detail/en/kemet/ESK227M035AH1AA/399-6109-ND/2712538; Tolerance: 20%; Voltage: 35V; Price: 0.32; Device Package: Radial, Can, 10mm
footprint CAP AL TH D10 L5 H14.5
pins: 1, 2

## ESK227M050AH1EA
designator C?, comment 220uF  (value not drawn)
CAP ALUM 220UF 20% 50V RADIAL; Part Number: ESK227M050AH1EA; Manufacturer: KEMET; TemperatureRange: -40C ~ 85C; Type: Polar; Ripple Current: 360mA @ 120Hz; Value: 220uF; PartId: 24514; Supplier 1: Digi-Key; Supplier Part Number 1: 399-6654-3-ND; ComponentLink1Description: Datasheet; ComponentLink1URL: http://www.kemet.com/docfinder?Partnumber=ESK227M050AH1EA; ComponentLink2Description: Digi-Key Listing; ComponentLink2URL: https://www.digikey.com/product-detail/en/kemet/ESK227M050AH1EA/399-6654-3-ND/3083069; Tolerance: 20%; Voltage: 50V; Price: 0.1275; Device Package: Radial, Can, 10mm
footprint CAP AL TH D10 L5 H14.5
pins: 1, 2

## ESK228M035AM7AA
designator C?, comment 2200uF  (value not drawn)
CAP ALUM 2200UF 20% 35V RADIAL; Part Number: ESK228M035AM7AA; Manufacturer: KEMET; TemperatureRange: -40C ~ 85C; Type: Polar; Ripple Current: 1.6A @ 120Hz; Value: 2200uF; PartId: 26838; Supplier 1: Digi-Key; Supplier Part Number 1: 399-6111-ND; ComponentLink1Description: Datasheet; ComponentLink1URL: http://capacitoredge.kemet.com/capedge2/DataSheet?pn=ESK228M035AM7AA; ComponentLink2Description: Digi-Key Listing; ComponentLink2URL: https://www.digikey.com/product-detail/en/kemet/ESK228M035AM7AA/399-6111-ND/2712541; Tolerance: 20%; Voltage: 35V; Price: 0.99; Device Package: Radial, Can, 16mm
footprint CAP AL TH D16 L7.5 H27
pins: 1, 2

## ESK337M050AH4AA
designator C?, comment 330uF  (value not drawn)
CAP ALUM 330UF 20% 50V RADIAL; Part Number: ESK337M050AH4AA; Manufacturer: KEMET; TemperatureRange: -40C ~ 85C; Type: Polar; Ripple Current: 580mA @ 120Hz; Value: 330uF; PartId: 25498; Supplier 1: Digi-Key; Supplier Part Number 1: 399-6608-ND; ComponentLink1Description: Datasheet; ComponentLink1URL: http://www.kemet.com/docfinder?Partnumber=ESK337M050AH4AA; ComponentLink2Description: Digi-Key Listing; ComponentLink2URL: https://www.digikey.com/product-detail/en/kemet/ESK337M050AH4AA/399-6608-ND/3083023; Tolerance: 20%; Voltage: 50V; Price: 0.46; Device Package: Radial, Can, 10mm
footprint CAP AL TH D10 L5 H22
pins: 1, 2

## ESK477M025AH1EA
designator C?, comment 470uF  (value not drawn)
CAP ALUM 470UF 20% 25V RADIAL; Part Number: ESK477M025AH1EA; Manufacturer: KEMET; TemperatureRange: -40C ~ 85C; Type: Polar; Ripple Current: 460mA @ 120Hz; Value: 470uF; PartId: 24495; Supplier 1: Digi-Key; Supplier Part Number 1: 399-6656-3-ND; ComponentLink1Description: Datasheet; ComponentLink1URL: http://www.kemet.com/docfinder?Partnumber=ESK477M025AH1EA; ComponentLink2Description: Digi-Key Listing; ComponentLink2URL: https://www.digikey.com/product-detail/en/kemet/ESK477M025AH1EA/399-6656-3-ND/3083071; Tolerance: 20%; Voltage: 25V; Price: 0.1068; Device Package: Radial, Can, 10mm
footprint CAP AL TH D10 L5 H14.5
pins: 1, 2

## ESMG6R3ELL332MJ20S
designator C?, comment 3300uF  (value not drawn)
CAP ALUM 3300UF 20% 6.3V RADIAL; Part Number: ESMG6R3ELL332MJ20S; Manufacturer: United Chemi-Con; TemperatureRange: -40C ~ 85C; Type: Polar; Ripple Current: 1.185A @ 120Hz; Value: 3300uF; PartId: 25639; Supplier 1: Digi-Key; Supplier Part Number 1: 565-1007-ND; ComponentLink1Description: Datasheet; ComponentLink1URL: http://www.chemi-con.com/upload/files/6/3/873997624d9b1bc8060f8.pdf; ComponentLink2Description: Digi-Key Listing; ComponentLink2URL: https://www.digikey.com/product-detail/en/united-chemi-con/ESMG6R3ELL332MJ20S/565-1007-ND/755523; Tolerance: 20%; Voltage: 6.3V; Price: 0.73; Device Package: Radial, Can, 10mm
footprint CAP AL TH D10 L5 H22
pins: 1, 2

## ESMG6R3ELL682MK25S
designator C?, comment 6800uF  (value not drawn)
CAP ALUM 6800UF 20% 6.3V RADIAL; Part Number: ESMG6R3ELL682MK25S; Manufacturer: United Chemi-Con; TemperatureRange: -40C ~ 85C; Type: Polar; Ripple Current: 1.915A @ 120Hz; Value: 6800uF; PartId: 23709; Supplier 1: Digi-Key; Supplier Part Number 1: 565-1009-ND; ComponentLink1Description: Datasheet; ComponentLink1URL: http://www.chemi-con.com/upload/files/6/3/873997624d9b1bc8060f8.pdf; ComponentLink2Description: Digi-Key Listing; ComponentLink2URL: https://www.digikey.com/product-detail/en/united-chemi-con/ESMG6R3ELL682MK25S/565-1009-ND/755525; Tolerance: 20%; Voltage: 6.3V; Price: 1.16; Device Package: Radial, Can, 12.5mm
footprint CAP AL TH D12.5 L5 H26.5
pins: 1, 2

## ESMG101ELL101MJ20S
designator C?, comment 100uF  (value not drawn)
CAP ALUM 100UF 20% 100V RADIAL; Part Number: ESMG101ELL101MJ20S; Manufacturer: United Chemi-Con; TemperatureRange: -40C ~ 85C; Type: Polar; Ripple Current: 370mA @ 120Hz; Value: 100uF; PartId: 25629; Supplier 1: Digi-Key; Supplier Part Number 1: 565-1152-ND; ComponentLink1Description: Datasheet; ComponentLink1URL: http://www.chemi-con.com/upload/files/6/3/873997624d9b1bc8060f8.pdf; ComponentLink2Description: Digi-Key Listing; ComponentLink2URL: https://www.digikey.com/product-detail/en/united-chemi-con/ESMG101ELL101MJ20S/565-1152-ND/755668; Tolerance: 20%; Voltage: 100V; Price: 0.72; Device Package: Radial, Can, 10mm
footprint CAP AL TH D10 L5 H22
pins: 1, 2

## ESMG101ELL122MP40S
designator C?, comment 1200uF  (value not drawn)
CAP ALUM 1200UF 20% 100V RADIAL; Part Number: ESMG101ELL122MP40S; Manufacturer: United Chemi-Con; TemperatureRange: -40C ~ 85C; Type: Polar; Ripple Current: 1.98A @ 120Hz; Value: 1200uF; PartId: 27592; Supplier 1: Digi-Key; Supplier Part Number 1: 565-1161-ND; ComponentLink1Description: Datasheet; ComponentLink1URL: http://www.chemi-con.com/upload/files/6/3/873997624d9b1bc8060f8.pdf; ComponentLink2Description: Digi-Key Listing; ComponentLink2URL: https://www.digikey.com/product-detail/en/united-chemi-con/ESMG101ELL122MP40S/565-1161-ND/755677; Tolerance: 20%; Voltage: 100V; Price: 4.53; Device Package: Radial, Can, 22mm
footprint CAP AL TH D22 L10 H43
pins: 1, 2

## ESMG101ELL331MK25S
designator C?, comment 330uF  (value not drawn)
CAP ALUM 330UF 20% 100V RADIAL; Part Number: ESMG101ELL331MK25S; Manufacturer: United Chemi-Con; TemperatureRange: -40C ~ 85C; Type: Polar; Ripple Current: 760mA @ 120Hz; Value: 330uF; PartId: 23721; Supplier 1: Digi-Key; Supplier Part Number 1: 565-1154-ND; ComponentLink1Description: Datasheet; ComponentLink1URL: http://www.chemi-con.com/upload/files/6/3/873997624d9b1bc8060f8.pdf; ComponentLink2Description: Digi-Key Listing; ComponentLink2URL: https://www.digikey.com/product-detail/en/united-chemi-con/ESMG101ELL331MK25S/565-1154-ND/755670; Tolerance: 20%; Voltage: 100V; Price: 1.3; Device Package: Radial, Can, 12.5mm
footprint CAP AL TH D12.5 L5 H26.5
pins: 1, 2

## ESMG101ELL471ML25S
designator C?, comment 470uF  (value not drawn)
CAP ALUM 470UF 20% 100V RADIAL; Part Number: ESMG101ELL471ML25S; Manufacturer: United Chemi-Con; TemperatureRange: -40C ~ 85C; Type: Polar; Ripple Current: 1A @ 120Hz; Value: 470uF; PartId: 26691; Supplier 1: Digi-Key; Supplier Part Number 1: 565-1156-ND; ComponentLink1Description: Datasheet; ComponentLink1URL: http://www.chemi-con.com/upload/files/6/3/873997624d9b1bc8060f8.pdf; ComponentLink2Description: Digi-Key Listing; ComponentLink2URL: https://www.digikey.com/product-detail/en/united-chemi-con/ESMG101ELL471ML25S/565-1156-ND/755672; Tolerance: 20%; Voltage: 100V; Price: 1.84; Device Package: Radial, Can, 16mm
footprint CAP AL TH D16 L7.5 H26.5
pins: 1, 2

## ESMG160ELL102MJ16S
designator C?, comment 1000uF  (value not drawn)
CAP ALUM 1000UF 20% 16V RADIAL; Part Number: ESMG160ELL102MJ16S; Manufacturer: United Chemi-Con; TemperatureRange: -40C ~ 85C; Type: Polar; Ripple Current: 785mA @ 120Hz; Value: 1000uF; PartId: 25303; Supplier 1: Digi-Key; Supplier Part Number 1: 565-1041-ND; ComponentLink1Description: Datasheet; ComponentLink1URL: http://www.chemi-con.com/upload/files/6/3/873997624d9b1bc8060f8.pdf; ComponentLink2Description: Digi-Key Listing; ComponentLink2URL: https://www.digikey.com/product-detail/en/united-chemi-con/ESMG160ELL102MJ16S/565-1041-ND/755557; Tolerance: 20%; Voltage: 16V; Price: 0.64; Device Package: Radial, Can, 10mm
footprint CAP AL TH D10 L5 H17.5
pins: 1, 2